# EAGLE library part PSC-8-1-75 (library minicir-dt)
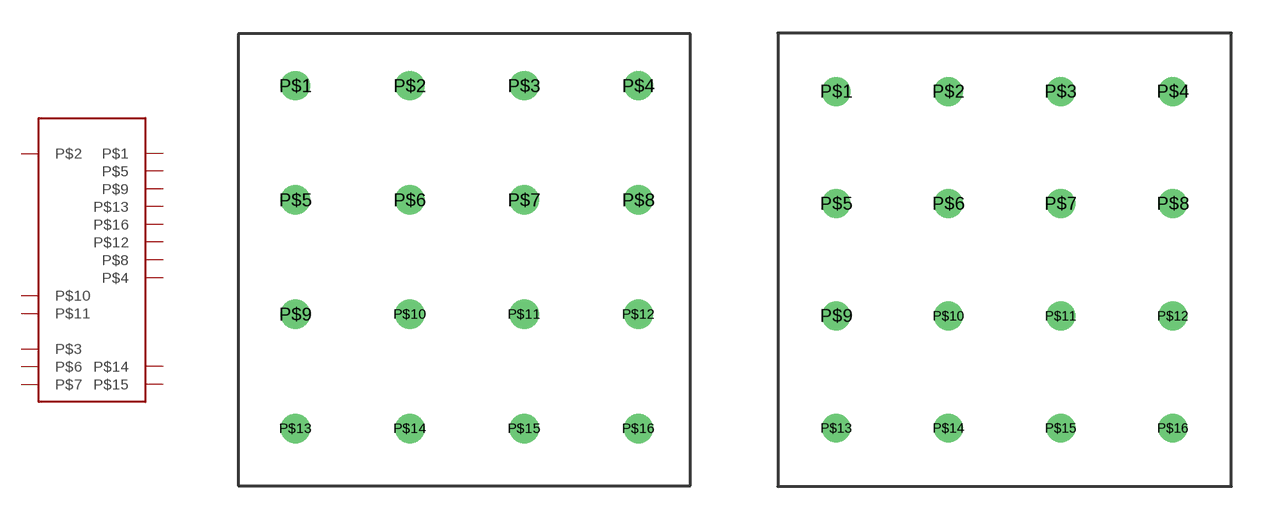
[diagram p0: symbol with the pads of PSC-8-1-75; footprints PSC-8-1-75, PSC-8-1-75-2]

Designator prefix -

## PSC-8-1-75THROUGH_HOLE  [PSC-8-1-75]
P$1  P$1
P$2  P$2
P$3  P$3
P$4  P$4
P$5  P$5
P$6  P$6
P$7  P$7
P$8  P$8
P$9  P$9
P$10  P$10
P$11  P$11
P$12  P$12
P$13  P$13
P$14  P$14
P$15  P$15
P$16  P$16

## PSC-8-1-75THROUGH_HOLE_2  [PSC-8-1-75-2]
Pads as for PSC-8-1-75

## Footprint PSC-8-1-75 (pad centres in mm)
drill 0.8: P$1 2.55,17.79; P$2 7.63,17.79; P$3 12.71,17.79; P$4 17.79,17.79; P$5 2.55,12.71; P$6 7.63,12.71; P$7 12.71,12.71; P$8 17.79,12.71; P$9 2.55,7.63; P$10 7.63,7.63; P$11 12.71,7.63; P$12 17.79,7.63; P$13 2.55,2.55; P$14 7.63,2.55; P$15 12.71,2.55; P$16 17.79,2.55

## Footprint PSC-8-1-75-2 (pad centres in mm)
8 Port Multi-Coupler, Through Hole (fixed pins)
drill 0.8: P$1 2.65,17.92; P$2 7.74,17.92; P$3 12.83,17.92; P$4 17.92,17.92; P$5 2.65,12.83; P$6 7.74,12.83; P$7 12.83,12.83; P$8 17.92,12.83; P$9 2.65,7.74; P$10 7.74,7.74; P$11 12.83,7.74; P$12 17.92,7.74; P$13 2.65,2.65; P$14 7.74,2.65; P$15 12.83,2.65; P$16 17.92,2.65